# Altium schematic symbol library Schlib2.SchLib: 11 symbols
Pins are listed as number, name and electrical type; pins without a type are passive.

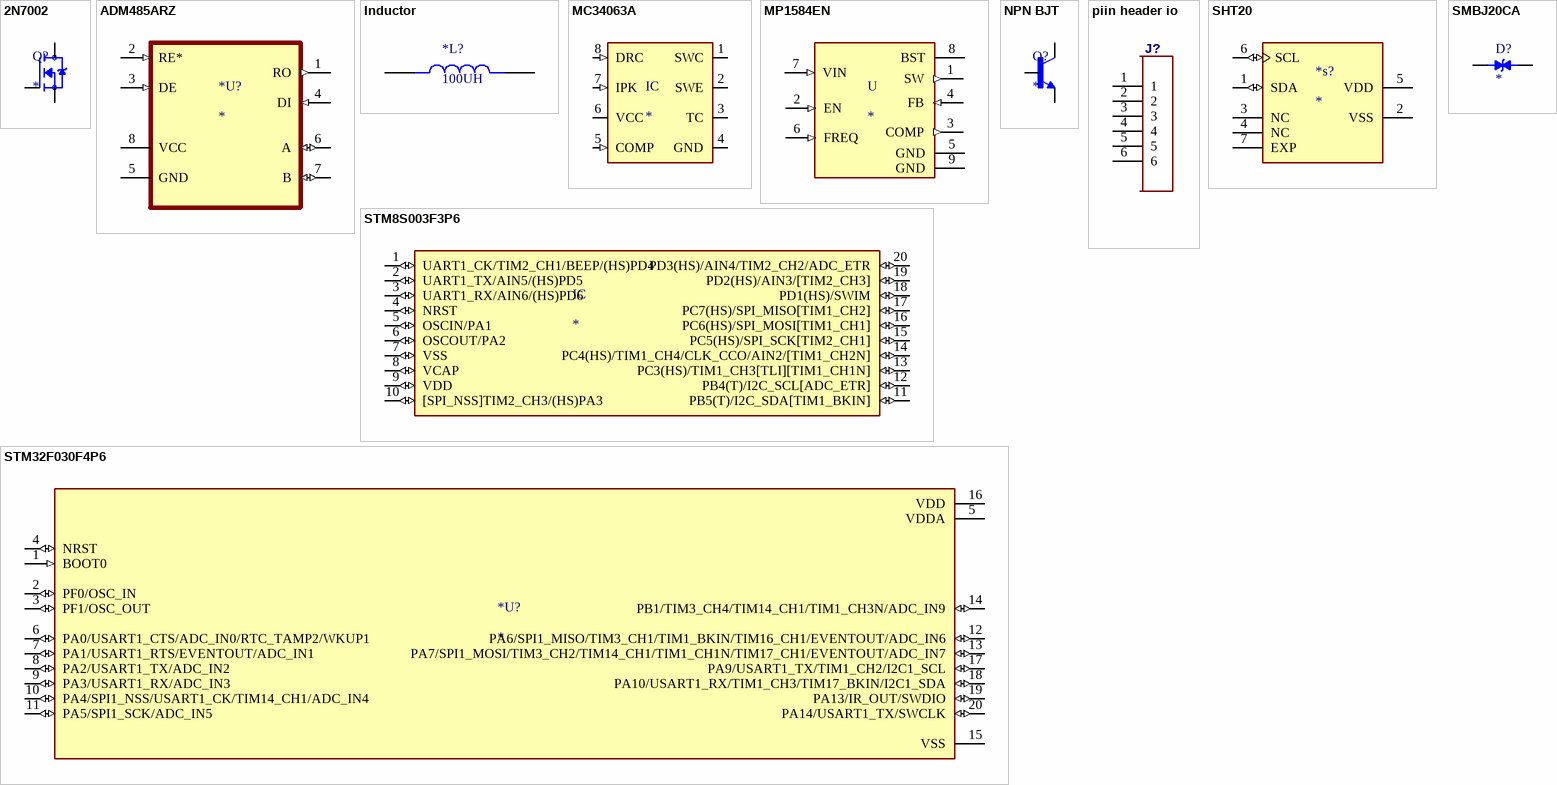
[diagram p0: symbols 2N7002 to STM32F030F4P6]

## 2N7002
designator Q?
N-Channel 60V 280mA (Ta) 350mW (Ta) Surface Mount SOT-23-3 (TO-236); MP: 2N7002; Price: None; Package: None; Availability: Unavailable; Value: *
footprint 2N7002
pins: 1 G, 2 S, 3 D

## ADM485ARZ
designator *U?
1/1 Transceiver Half RS422, RS485 8-SOIC; MP: ADM485ARZ; MF: Analog Devices; SnapEDA_Link: https://www.snapeda.com/parts/ADM485ARZ/Analog%20Devices%20Inc./view-part/44141/?ref=snap; Mouser-Purchase-URL: https://snapeda.com/shop?store=Mouser&id=44141; Price: None; Availability: Good; DigiKey-Purchase-URL: https://snapeda.com/shop?store=DigiKey&id=44141; Package: SOIC-8 Analog Devices; Value: *; ADM485: https://www.snapeda.com/parts/ADM485ARZ/Analog%20Devices%20Inc./view-part/44141/?ref=eda
footprint ADM485
pins: 1 RO (out), 2 RE* (in), 3 DE (in), 4 DI (in), 5 GND, 6 A (io), 7 B (io), 8 VCC (power)

## Inductor
designator *L?, comment 100UH
footprint power inductor
pins: 1, 2

## MC34063A
designator IC
Buck, Boost Switching Regulator IC Positive or Negative Adjustable 1.25V 1 Output 1.5A _Switch_ 8-SOIC _0.154, 3.90mm Width_; MP: MC34063A; MF: Texas Instruments; Package: SOIC-8 Texas Instruments; Availability: Unavailable; Price: None; Value: *; SnapEDA_Link: https://www.snapeda.com/parts/MC34063A/Texas%20Instruments/view-part/581314/?ref=snap
footprint MC34063A
pins: 1 SWC (io), 2 SWE (io), 3 TC, 4 GND (power), 5 COMP (in), 6 VCC (power), 7 IPK (in), 8 DRC (in)

## MP1584EN
designator U
Buck Switching Regulator IC Positive Adjustable 0.8V 1 Output 3A 8-SOIC _0.154, 3.90mm Width_ Exposed Pad; MP: MP1584EN; MF: Monolithic Power; Value: *; Package: SOIC-8 Monolithic Power; SnapEDA_Link: https://www.snapeda.com/parts/MP1584EN/Monolithic%20Power%20Systems%20Inc./view-part/891721/?ref=snap; Price: None; Availability: Unavailable
footprint MP1584EN
pins: 1 SW (out), 2 EN (in), 3 COMP (out), 4 FB (in), 5 GND (power), 6 FREQ (in), 7 VIN (in), 8 BST, 9 GND (power)

## NPN BJT
designator Q?
Bipolar (BJT) Transistor NPN 40 V 3 A 3MHz 2 W Through Hole TO-220; MF: ON Semiconductor; MP: TIP31G; SnapEDA_Link: https://www.snapeda.com/parts/TIP31G/Onsemi/view-part/?ref=snap; Availability: In Stock; Purchase-URL: https://pricing.snapeda.com/search/part/TIP31G/?ref=eda; Check_prices: https://www.snapeda.com/parts/TIP31G/Onsemi/view-part/?ref=eda; Value: *; Package: TO-220-3 ON Semiconductor; Price: None
pins: 1 B, 2 C, 3 E

## piin header io
designator J?
pins: 1, 2, 3, 4, 5, 6

## SHT20
designator *s?
SENSOR HUMID/TEMP 3V I2C 3% SMD; MP: SHT20; MF: Sensirion AG; Package: DFN-6 Sensirion; Availability: Unavailable; Price: None; SnapEDA_Link: https://www.snapeda.com/parts/SHT20/Sensirion%20AG/view-part/53498/?ref=snap; Value: *
footprint sht20
pins: 1 SDA (io), 2 VSS (power), 3 NC, 4 NC, 5 VDD (power), 6 SCL (io), 7 EXP

## SMBJ20CA
designator D?
600W, 23.4V, 5%, Bidirectional, TVS; MP: SMBJ20CA; MF: Taiwan Semiconductor; SnapEDA_Link: https://www.snapeda.com/parts/SMBJ20CA/Taiwan+Semiconductor/view-part/?ref=snap; Value: *; Package: SMB Taiwan Semiconductor; Price: None; Availability: In Stock; Purchase-URL: https://pricing.snapeda.com/search/part/SMBJ20CA/?ref=eda; Check_prices: https://www.snapeda.com/parts/SMBJ20CA/Taiwan+Semiconductor/view-part/?ref=eda
footprint SMBJ20CA
pins: 1, 2

## STM8S003F3P6
designator IC
STM8 STM8S Microcontroller IC 8-Bit 16MHz 8KB _8K x 8_ FLASH 20-TSSOP; MP: STM8S003F3P6; MF: STMicroelectronics; Availability: Unavailable; SnapEDA_Link: https://www.snapeda.com/parts/STM8S003F3P6/STMicroelectronics/view-part/47650/?ref=snap; Price: None; Value: *; Package: TSSOP-20 STMicroelectronics
footprint STM8S003F3P6
pins: 1 UART1_CK/TIM2_CH1/BEEP/(HS)PD4 (io), 2 UART1_TX/AIN5/(HS)PD5 (io), 3 UART1_RX/AIN6/(HS)PD6 (io), 4 NRST (io), 5 OSCIN/PA1 (io), 6 OSCOUT/PA2 (io), 7 VSS (io), 8 VCAP (io), 9 VDD (io), 10 [SPI_NSS]TIM2_CH3/(HS)PA3 (io), 11 PB5(T)/I2C_SDA[TIM1_BKIN] (io), 12 PB4(T)/I2C_SCL[ADC_ETR] (io), 13 PC3(HS)/TIM1_CH3[TLI][TIM1_CH1N] (io), 14 PC4(HS)/TIM1_CH4/CLK_CCO/AIN2/[TIM1_CH2N] (io), 15 PC5(HS)/SPI_SCK[TIM2_CH1] (io), 16 PC6(HS)/SPI_MOSI[TIM1_CH1] (io), 17 PC7(HS)/SPI_MISO[TIM1_CH2] (io), 18 PD1(HS)/SWIM (io), 19 PD2(HS)/AIN3/[TIM2_CH3] (io), 20 PD3(HS)/AIN4/TIM2_CH2/ADC_ETR (io)

## STM32F030F4P6
designator *U?
MCU 32-bit STM32F ARM Cortex M0 RISC 16KB Flash 2.5V/3.3V 20-Pin TSSOP Tray; MP: STM32F030F4P6; Value: *; Package: None; Availability: Unavailable; Price: None
footprint STM32F030F4PT6
pins: 1 BOOT0 (in), 2 PF0/OSC_IN (io), 3 PF1/OSC_OUT (io), 4 NRST (io), 5 VDDA (power), 6 PA0/USART1_CTS/ADC_IN0/RTC_TAMP2/WKUP1 (io), 7 PA1/USART1_RTS/EVENTOUT/ADC_IN1 (io), 8 PA2/USART1_TX/ADC_IN2 (io), 9 PA3/USART1_RX/ADC_IN3 (io), 10 PA4/SPI1_NSS/USART1_CK/TIM14_CH1/ADC_IN4 (io), 11 PA5/SPI1_SCK/ADC_IN5 (io), 12 PA6/SPI1_MISO/TIM3_CH1/TIM1_BKIN/TIM16_CH1/EVENTOUT/ADC_IN6 (io), 13 PA7/SPI1_MOSI/TIM3_CH2/TIM14_CH1/TIM1_CH1N/TIM17_CH1/EVENTOUT/ADC_IN7 (io), 14 PB1/TIM3_CH4/TIM14_CH1/TIM1_CH3N/ADC_IN9 (io), 15 VSS (power), 16 VDD (power), 17 PA9/USART1_TX/TIM1_CH2/I2C1_SCL (io), 18 PA10/USART1_RX/TIM1_CH3/TIM17_BKIN/I2C1_SDA (io), 19 PA13/IR_OUT/SWDIO (io), 20 PA14/USART1_TX/SWCLK (io)